# Altium footprint library 7466113.PcbLib: 1 footprints
Each footprint in its own frame and in the unit in brackets; x right, y up, seen from the top. Pads: shape width x height; smd on the part's side, far side on the other; paste and mask are expansions set on the pad; w line width, h text height; cw(c..) or ccw(c..) is an arc to the next point about the centre after c.
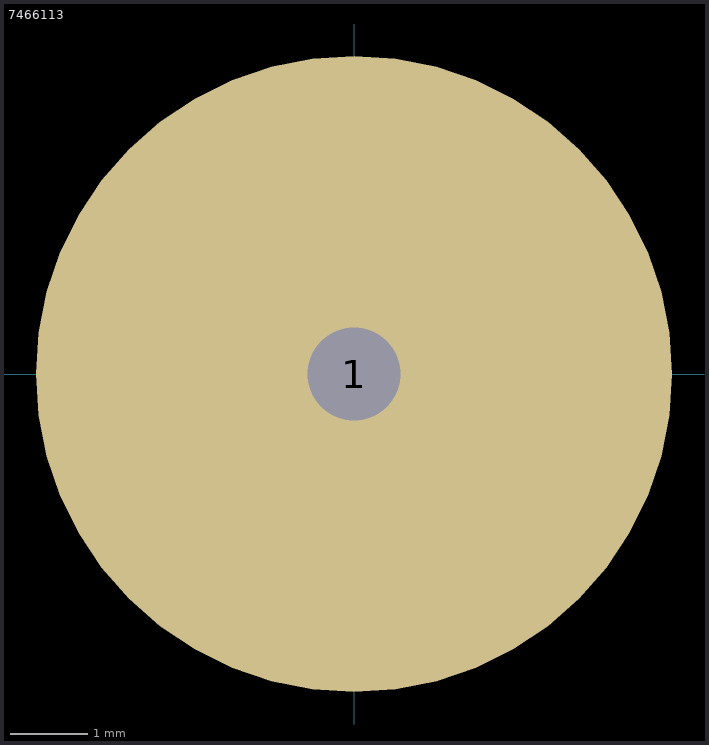
[diagram p0: the footprint, top view; thin cyan lines are the x and y axes]

## 7466113 [mm]
pads (1):
  round 8.2 smd: 1(0,0)
via 0,0 diameter 1.2 hole 1.2
3D body "7466113 (rev1).stp": height 8.01, standoff -0.79, extent -3.5,-3.494 3.5,3.5